# Altium footprint library МЦТР.00010582.00.002.PcbLib: 22 footprints (part 1 of 2)
Each footprint in its own frame and in the unit in brackets; x right, y up, seen from the top. Pads: shape width x height; smd on the part's side, far side on the other; paste and mask are expansions set on the pad; w line width, h text height; cw(c..) or ccw(c..) is an arc to the next point about the centre after c.
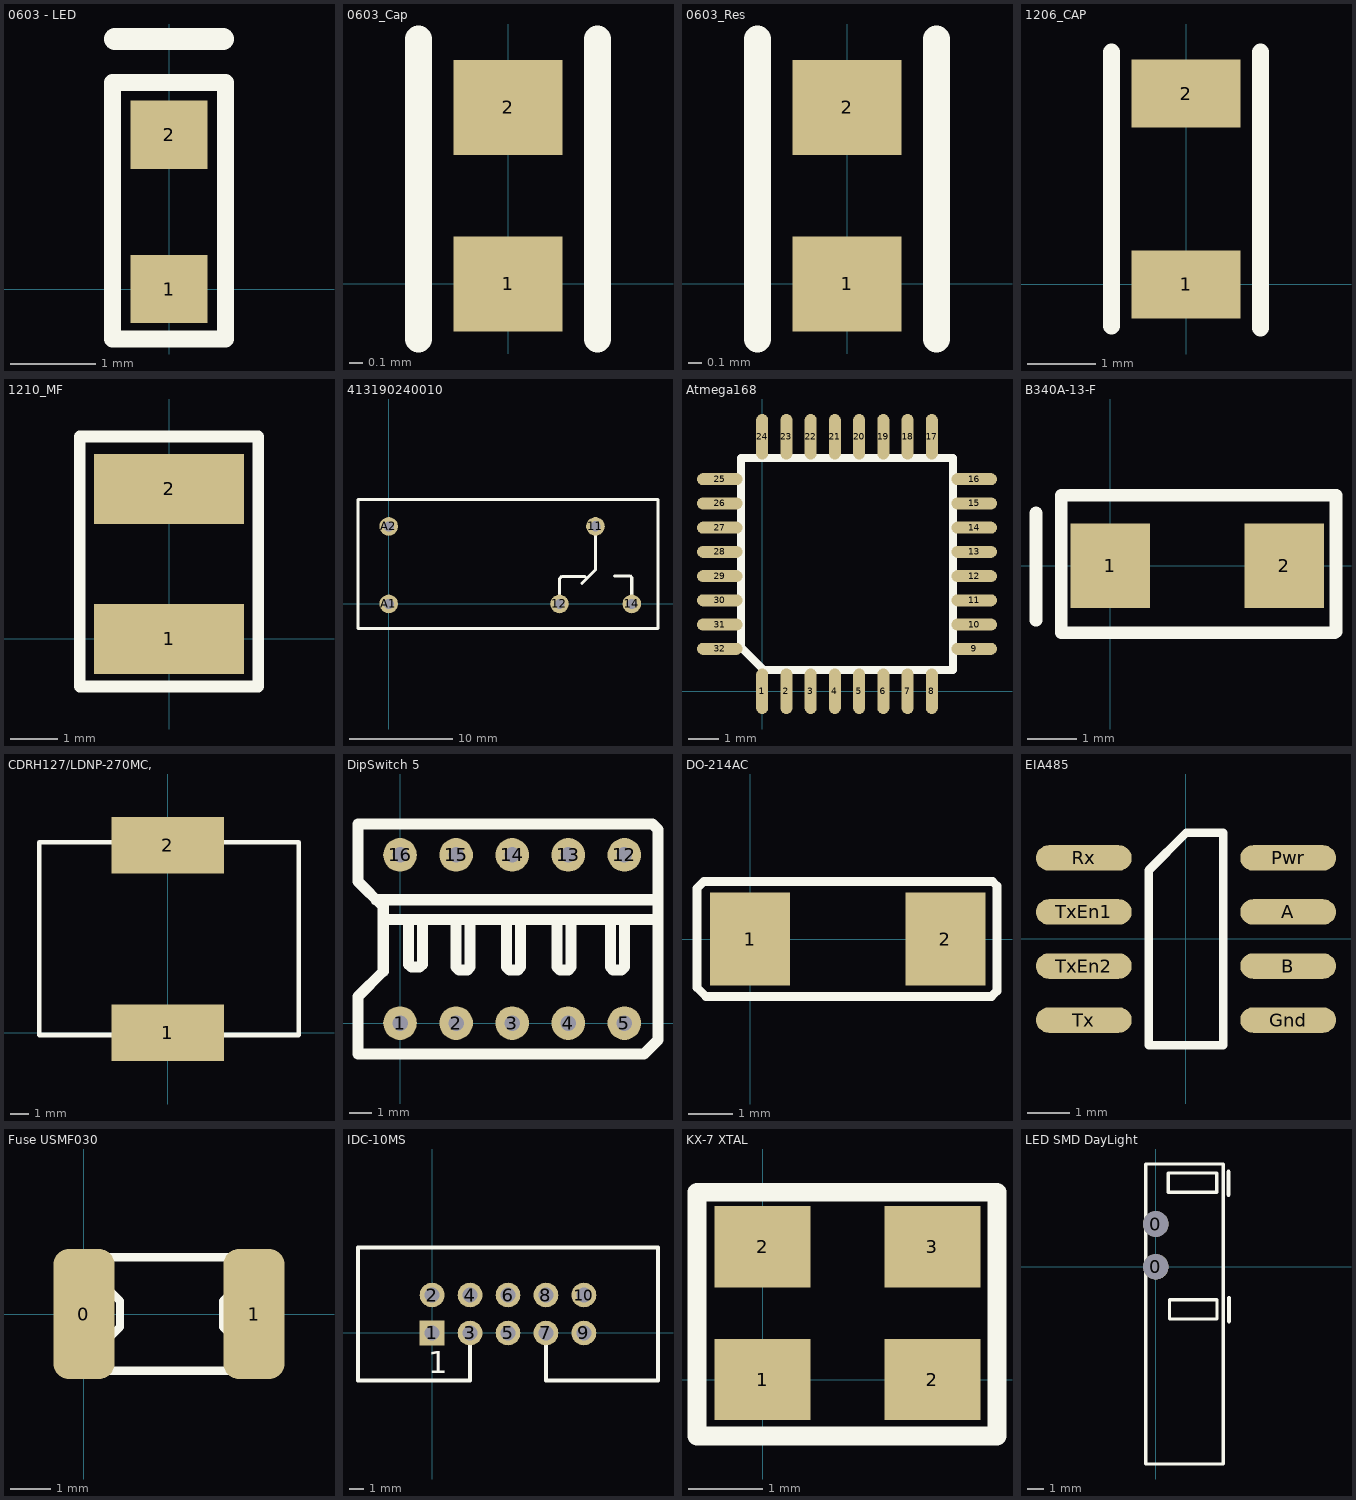
[diagram p0: the footprints below, top view; thin cyan lines are the x and y axes]

## 0603 - LED [mm]
height 1
pads (2):
  rect 0.9x0.8 smd mask+0.102: 1(0,0) 2(0,1.803)
Top Overlay:
  lines w0.2: -0.66,-0.584 -0.66,2.413 0.66,2.413 0.66,-0.584 -0.66,-0.584
  lines w0.254: -0.635,2.921 0.635,2.921
3D body "598-8060-102F.STEP": height 0.7, standoff 0, extent -0.4,0.089 0.4,1.689

## 0603_Cap [mm]
height 1
pads (2):
  rect 0.8x0.7 smd mask+0.102: 1(0,0) 2(0,1.3)
Top Overlay:
  lines w0.2: -0.66,-0.406 -0.66,1.803 ; 0.66,-0.406 0.66,1.803
3D body "0603CAP.STEP": height 0.9, standoff 0, extent -0.4,-0.165 0.4,1.435

## 0603_Res [mm]
height 1
pads (2):
  rect 0.8x0.7 smd mask+0.102: 1(0,0) 2(0,1.3)
Top Overlay:
  lines w0.2: -0.66,-0.406 -0.66,1.803 ; 0.66,-0.406 0.66,1.803
3D body "RT0603FRE0710KL.STEP": height 0.55, standoff 0, extent -0.4,-0.165 0.4,1.435

## 1206_CAP [mm]
height 2
pads (2):
  rect 1.6x1 smd: 1(0,0) 2(0,2.8)
Top Overlay:
  lines w0.254: -1.092,-0.61 -1.092,3.404 ; 1.092,-0.635 1.092,3.404
3D body "1206CAP.STEP": height 1.8, standoff 0, extent -0.8,-0.203 0.8,2.997

## 1210_MF [mm]
height 2
pads (2):
  rect 3.2x1.5 smd: 1(0,0) 2(0,3.2)
Top Overlay:
  lines w0.254: -1.905,-1.016 -1.905,4.318 1.905,4.318 1.905,-1.016 -1.905,-1.016
3D body "0ZCH0050FF2G.STEP": height 1.2, standoff 0, extent -1.288,-0.083 1.287,3.132

## 413190240010 [mm] "Finder"
height 16
pads (5):
  round 1.8 hole 1: 11(19.99,7.5) 12(16.51,0) 14(23.5,0) A1(0,0) A2(0,7.493)
Top Overlay:
  lines w0.3: 16.51,0 16.51,2.438 16.739,2.667 18.948,2.667 ; 18.669,1.981 19.99,3.302 19.99,7.5 ; 21.819,2.718 23.343,2.718 23.5,2.56 23.5,0 ; -2.972,-2.388 26.035,-2.388 26.035,10.112 -2.972,10.112 -2.972,-2.388
3D body "relay_g2rl-1_24dc.stp": height 15.7, standoff -3.5, extent -2.308,-2.54 26.692,10.16

## Atmega168 [mm]
pads (32):
  oval 0.4x1.5 smd mask+0.05: 1(0,0) 2(0.8,0) 3(1.6,0) 4(2.4,0) 5(3.2,0) 6(4,0) 7(4.8,0) 8(5.6,0) 17(5.6,8.4) 18(4.8,8.4) 19(4,8.4) 20(3.2,8.4) 21(2.4,8.4) 22(1.6,8.4) 23(0.8,8.4) 24(0,8.4)
  oval 1.5x0.4 smd mask+0.05: 9(7,1.4) 10(7,2.2) 11(7,3) 12(7,3.8) 13(7,4.6) 14(7,5.4) 15(7,6.2) 16(7,7) 25(-1.4,7) 26(-1.4,6.2) 27(-1.4,5.4) 28(-1.4,4.6) 29(-1.4,3.8) 30(-1.4,3) 31(-1.4,2.2) 32(-1.4,1.4)
Top Overlay:
  lines w0.254: -0.7,1.462 0.062,0.7 6.3,0.7 6.3,7.7 -0.7,7.7 -0.7,1.462
3D body "ATMEGA168PB-AU.STEP": height 1.2, standoff 0, extent -1.634,-0.309 7.366,8.691

## B340A-13-F [mm]
height 2
pads (2):
  rect 1.6x1.7 smd: 1(0,0) 2(3.5,0)
Top Overlay:
  lines w0.254: -1.499,-1.092 -1.499,1.067 ; 4.521,-1.346 -0.991,-1.346 -0.991,1.422 4.547,1.422 4.547,-1.327
3D body "B360A-13-F.STEP": height 2.62, standoff 0, extent -1.046,-1.407 4.094,1.153

## CDRH127/LDNP-270MC, [mm]
pads (2):
  rect 6x3 smd: 1(0,0) 2(0,10)
Top Overlay:
  lines w0.254: -6.858,-0.127 -6.858,10.16 6.985,10.16 6.985,-0.127 -6.858,-0.127
3D body "CDRH127LDNP220MC.STEP": height 8, standoff 0, extent -6,-0.92 6,11.08

## DipSwitch 5 [mil]
pads (10):
  round 60 hole 27.56: 1(0,0) 2(100,0) 3(200,0) 4(300,0) 5(400,0) 12(400,300) 13(300,300) 14(200,300) 15(100,300) 16(0,300)
Top Overlay:
  lines w19.68: -42.5,220 455,220 ; -30,185 455,185 ; 15,180 15,105 20,100 35,100 40,105 40,180 ; 100,185 100,100 105,95 120,95 125,100 125,185 ; 190,185 190,100 195,95 210,95 215,100 215,185 ; 280,185 280,100 285,95 300,95 305,100 305,185 ; 375,185 375,100 380,95 395,95 400,100 400,185 ; -75,-55 -75,47.5 -30,92.5 -30,207.5 -75,252.5 -75,355 450,355 460,345 460,-30 435,-55 -75,-55
3D body "DS03-254-05BE--3DModel-STEP-1.STEP": height 389.76, standoff -111.79, extent -80,-79.2 475.91,311.53

## DO-214AC [mm]
pads (2):
  rect 1.8x2.1 smd: 1(0,0) 2(4.4,0)
Top Overlay:
  lines w0.2: -1.194,-1.092 -0.991,-1.295 5.436,-1.295 5.563,-1.168 5.563,1.194 5.461,1.295 -1.041,1.295 -1.194,1.143 -1.194,-1.092
3D body "SMAJ5.0CA.STEP": height 2.4, standoff 0, extent -0.446,-1.303 4.764,1.303

## EIA485 [mm] "SOIC, 8-Leads, Body 4,90x3,90mm, Pitch 1,27mm, IPC Medium Density"
height 1.65
pads (8):
  oval 2.25x0.6 smd: A(2.4,0.635) B(2.4,-0.635) Gnd(2.4,-1.905) Pwr(2.4,1.905) Rx(-2.4,1.905) Tx(-2.4,-1.905) TxEn1(-2.4,0.635) TxEn2(-2.4,-0.635)
Top Overlay:
  lines w0.2: -0.875,-2.5 -0.875,1.614 0.011,2.5 0.875,2.5 0.875,-2.5 -0.875,-2.5
3D body "SN65HVD32DR.STEP": height 1.75, standoff 0, extent -2.995,-2.452 2.995,2.453

## Fuse USMF030 [mm]
height 2
pads (2):
  rrect50% 1.5x3.2 smd: 0(0,0) 1(4.191,0)
Top Overlay:
  lines w0.2: 0.508,-1.397 3.81,-1.397 3.81,-0.699 3.429,-0.318 3.429,0.318 3.81,0.699 3.81,1.397 0.508,1.397 0.508,0.699 0.889,0.318 0.889,-0.318 0.508,-0.699 0.508,-1.397
3D body "MF-MSMF030-2.STEP": height 0.85, standoff 0, extent -0.243,-1.62 4.307,1.62

## IDC-10MS [mm]
pads (10):
  rect 1.65x1.65 hole 1: 1(0,0)
  round 1.65 hole 1: 2(0,2.54) 3(2.54,0) 4(2.54,2.54) 5(5.08,0) 6(5.08,2.54) 7(7.62,0) 8(7.62,2.54) 9(10.16,0) 10(10.16,2.54)
Top Overlay:
  lines w0.254: 2.54,-0.254 2.54,-3.175 -4.953,-3.175 -4.953,5.715 7.62,5.715 15.113,5.715 15.113,-3.175 7.62,-3.175 7.62,-0.254
  text "1" at -0.25,-2.7 h1.5
3D body "IDC-10.STEP": height 9.1, standoff -3.1, extent -4.943,-3.28 15.357,5.82

## KX-7 XTAL [mm]
height 1
pads (4):
  rect 1.3x1.1 smd: 1(0,0) 2(0,1.8) 2(2.3,0) 3(2.3,1.8)
Top Overlay:
  lines w0.254: -0.889,-0.762 -0.889,2.54 3.175,2.54 3.175,-0.762 -0.889,-0.762
3D body "KX7T.STEP": height 0.8, standoff 0, extent -0.457,-0.361 2.743,2.139

## LED SMD DayLight [mm]
pads (2):
  round 1.52 hole 1.52 paste+0 mask+0: 0(0,0) 0(0,2.54)
Top Overlay:
  lines w0.2: -0.6,1.905 -0.6,6.1 4,6.1 4,-11.7 -0.6,-11.7 -0.6,2.54 ; 0.737,4.42 3.607,4.42 3.607,5.563 0.737,5.563 0.737,4.42 ; 0.813,-3.099 0.813,-1.956 3.632,-1.956 3.632,-3.099 0.813,-3.099
  lines w0.254: 4.318,4.267 4.318,5.639 ; 4.343,-3.226 4.343,-1.854